# Altium schematic symbol library U1620G.SchLib: 1 symbol
Pins are listed as number, name and electrical type; pins without a type are passive.

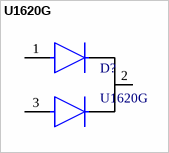
[diagram p0: symbol U1620G]

## U1620G
designator D?
footprint TO-220(bend2)
footprint TO-220_Bended_Rad
footprint TO-220_lay
pins: 1 A, 2 C, 3 A